# Altium footprint library TL76-5.PcbLib: 1 footprints
Each footprint in its own frame and in the unit in brackets; x right, y up, seen from the top. Pads: shape width x height; smd on the part's side, far side on the other; paste and mask are expansions set on the pad; w line width, h text height; cw(c..) or ccw(c..) is an arc to the next point about the centre after c.
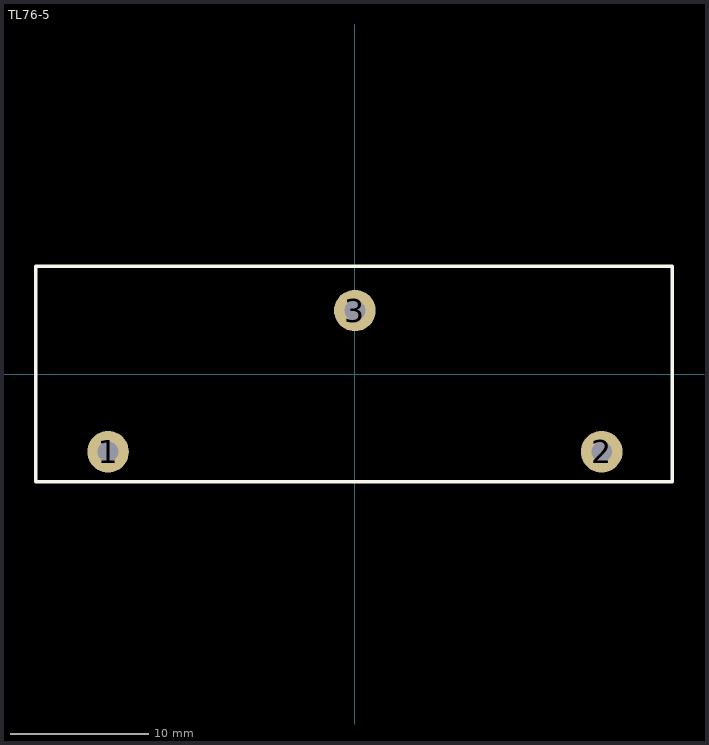
[diagram p0: the footprint, top view; thin cyan lines are the x and y axes]

## TL76-5 [mm]
pads (3):
  round 3 hole 1.5: 1(-17.78,-5.6) 2(17.78,-5.6) 3(0,4.572)
Top Overlay:
  lines w0.254: -22.987,-7.747 22.86,-7.747 22.86,7.747 -22.987,7.747 -22.987,-7.747
3D body "THAI LIN TL76-5-100 (3).STEP": height 46.37, standoff -2.13, extent -22.75,-7.65 22.75,7.65